# EAGLE library part SN74AVC4T774 (library DSDEagleLibrary)
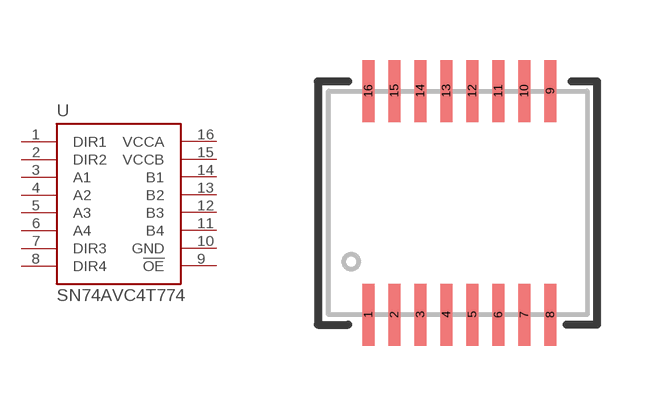
[diagram p15: symbol with the pads of SN74AVC4T774; footprint SN74AVC4T774]

Designator prefix U

## SN74AVC4T774  [SN74AVC4T774]
1  DIR1
2  DIR2
3  A1
4  A2
5  A3
6  A4
7  DIR3
8  DIR4
9  !OE
10  GND
11  B4
12  B3
13  B2
14  B1
15  VCCB
16  VCCA

## Footprint SN74AVC4T774 (pad centres in mm)
smd 0.3 x 1.55: 1 0,0; 2 0.65,0; 3 1.3,0; 4 1.95,0; 5 2.6,0; 6 3.25,0; 7 3.9,0; 8 4.55,0; 9 4.55,5.6; 10 3.9,5.6; 11 3.25,5.6; 12 2.6,5.6; 13 1.95,5.6; 14 1.3,5.6; 15 0.65,5.6; 16 0,5.6